# EAGLE library part WS2812S_LED (library blinkinlabs)
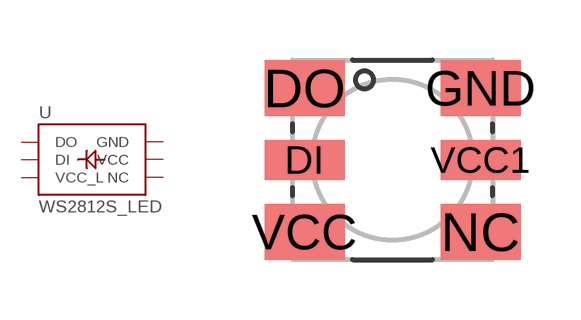
[diagram p1: symbol with the pads of WS2812S_LED; footprint WS2812S_LED]

Designator prefix -

## WS2812S_LED  [WS2812S_LED]
DI  DI
DO  DO
GND  GND
NC  NC
VCC  VCC
VCC1  VCC_L

## Footprint WS2812S_LED (pad centres in mm)
smd 2 x 1: DI -2.2,0; VCC1 2.2,0
smd 2 x 1.4: DO -2.2,1.8; GND 2.2,1.8; NC 2.2,-1.8; VCC -2.2,-1.8